# EAGLE library part SS-50_MALE_CONNECTOR (library SS-50)
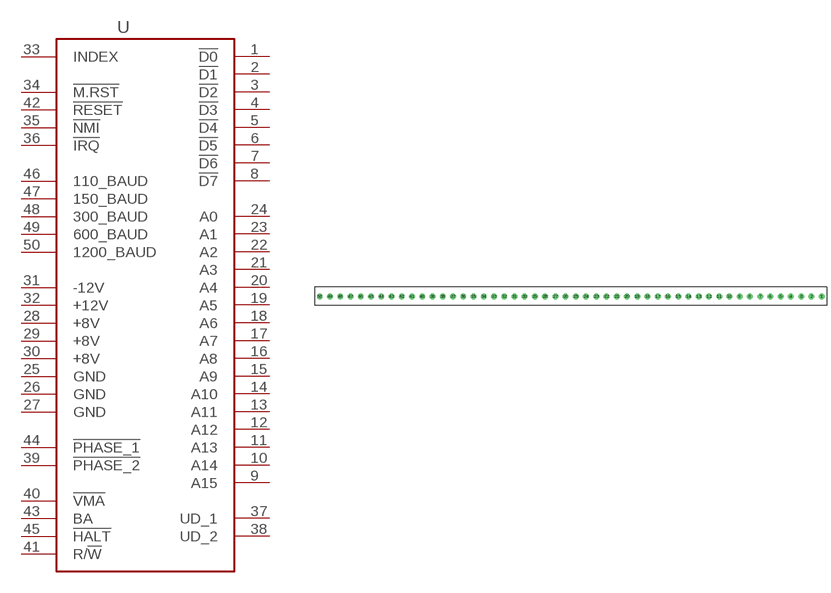
[diagram p4: symbol with the pads of SS-50_MALE_CONNECTOR; footprint SS-50_MALE_CONNECTOR]

Designator prefix -

## SS-50_MALE_CONNECTOR  [SS-50_MALE_CONNECTOR]
1  !D0
2  !D1
3  !D2
4  !D3
5  !D4
6  !D5
7  !D6
8  !D7
9  A15
10  A14
11  A13
12  A12
13  A11
14  A10
15  A9
16  A8
17  A7
18  A6
19  A5
20  A4
21  A3
22  A2
23  A1
24  A0
25  GND  pwr
26  GND  pwr
27  GND  pwr
28  +8V  pwr
29  +8V  pwr
30  +8V  pwr
31  -12V  pwr
32  +12V  pwr
33  INDEX  nc
34  !M.RST
35  !NMI
36  !IRQ
37  UD_1
38  UD_2
39  !PHASE_2
40  !VMA
41  R/!W
42  !RESET
43  BA
44  !PHASE_1
45  !HALT
46  110_BAUD
47  150_BAUD
48  300_BAUD
49  600_BAUD
50  1200_BAUD

## Footprint SS-50_MALE_CONNECTOR (pad centres in mm)
drill 1.524: 1 97.13,0.254; 2 93.167,0.254; 3 89.205,0.254; 4 85.242,0.254; 5 81.28,0.254; 6 77.318,0.254; 7 73.355,0.254; 8 69.393,0.254; 9 65.43,0.254; 10 61.468,0.254; 11 57.506,0.254; 12 53.543,0.254; 13 49.581,0.254; 14 45.618,0.254; 15 41.656,0.254; 16 37.694,0.254; 17 33.731,0.254; 18 29.769,0.254; 19 25.806,0.254; 20 21.844,0.254; 21 17.882,0.254; 22 13.919,0.254; 23 9.957,0.254; 24 5.994,0.254; 25 2.032,0.254; 26 -1.93,0.254; 27 -5.893,0.254; 28 -9.855,0.254; 29 -13.818,0.254; 30 -17.78,0.254; 31 -21.742,0.254; 32 -25.705,0.254; 33 -29.667,0.254; 34 -33.63,0.254; 35 -37.592,0.254; 36 -41.554,0.254; 37 -45.517,0.254; 38 -49.479,0.254; 39 -53.442,0.254; 40 -57.404,0.254; 41 -61.366,0.254; 42 -65.329,0.254; 43 -69.291,0.254; 44 -73.254,0.254; 45 -77.216,0.254; 46 -81.178,0.254; 47 -85.141,0.254; 48 -89.103,0.254; 49 -93.066,0.254; 50 -97.028,0.254